# Altium schematic symbol library IC - Digital isolators.SchLib: 7 symbols
Pins are listed as number, name and electrical type; pins without a type are passive.

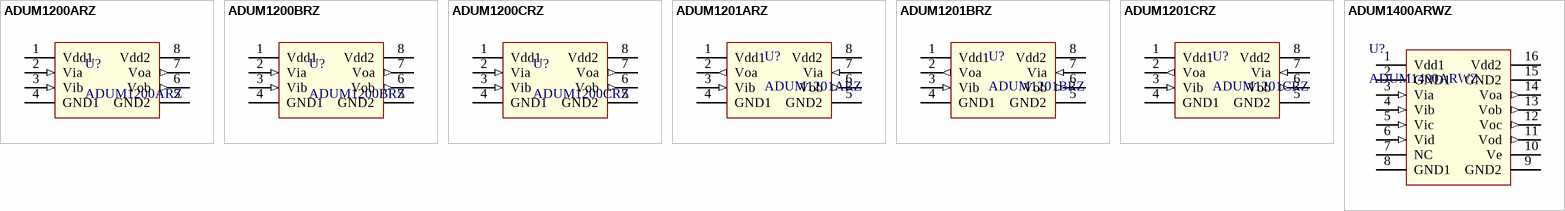
[diagram p0: symbols ADUM1200ARZ to ADUM1400ARWZ]

## ADUM1200ARZ
designator U?
ADUM1200ARZ 2-out digital isolator; Voltages: +2.7...5.5 V; Isolation Vrms: 2500 V for 1 minute; Max Temperature: 105 C; Max data rate: 1 Mbps; Propagation delay: 150 ns; Output rise/fall time: 10 ns; Min pulse width: 1000 ns
footprint LC-SOIC-8_150mil
pins: 1 Vdd1 (power), 2 Via (in), 3 Vib (in), 4 GND1 (power), 5 GND2 (power), 6 Vob (out), 7 Voa (out), 8 Vdd2 (power)

## ADUM1200BRZ
designator U?
ADUM1200BRZ 2-out digital isolator; Voltages: +2.7...5.5 V; Isolation Vrms: 2500 V for 1 minute; Max Temperature: 105 C; Max data rate: 10 Mbps; Propagation delay: 50 ns; Output rise/fall time: 2.5 ns; Min pulse width: 100 ns
footprint LC-SOIC-8_150mil
pins: 1 Vdd1 (power), 2 Via (in), 3 Vib (in), 4 GND1 (power), 5 GND2 (power), 6 Vob (out), 7 Voa (out), 8 Vdd2 (power)

## ADUM1200CRZ
designator U?
ADUM1200CRZ 2-out digital isolator; Voltages: +2.7...5.5 V; Isolation Vrms: 2500 V for 1 minute; Max Temperature: 105 C; Max data rate: 25 Mbps; Propagation delay: 45 ns; Output rise/fall time: 2.5 ns; Min pulse width: 40 ns
footprint LC-SOIC-8_150mil
pins: 1 Vdd1 (power), 2 Via (in), 3 Vib (in), 4 GND1 (power), 5 GND2 (power), 6 Vob (out), 7 Voa (out), 8 Vdd2 (power)

## ADUM1201ARZ
designator U?
ADUM1201ARZ 1in/1-out digital isolator; Voltages: +2.7...5.5 V; Isolation Vrms: 2500 V for 1 minute; Max Temperature: 105 C; Max data rate: 1 Mbps; Propagation delay: 150 ns; Output rise/fall time: 10 ns; Min pulse width: 1000 ns
footprint LC-SOIC-8_150mil
pins: 1 Vdd1 (power), 2 Voa (out), 3 Vib (in), 4 GND1 (power), 5 GND2 (power), 6 Vob (out), 7 Via (in), 8 Vdd2 (power)

## ADUM1201BRZ
designator U?
ADUM1201BRZ 1in/1-out digital isolator; Voltages: +2.7...5.5 V; Isolation Vrms: 2500 V for 1 minute; Max Temperature: 105 C; Max data rate: 10 Mbps; Propagation delay: 50 ns; Output rise/fall time: 2.5 ns; Min pulse width: 100 ns
footprint LC-SOIC-8_150mil
pins: 1 Vdd1 (power), 2 Voa (out), 3 Vib (in), 4 GND1 (power), 5 GND2 (power), 6 Vob (out), 7 Via (in), 8 Vdd2 (power)

## ADUM1201CRZ
designator U?
ADUM1201CRZ 1in/1-out digital isolator; Voltages: +2.7...5.5 V; Isolation Vrms: 2500 V for 1 minute; Max Temperature: 105 C; Max data rate: 25 Mbps; Propagation delay: 45 ns; Output rise/fall time: 2.5 ns; Min pulse width: 40 ns
footprint LC-SOIC-8_150mil
pins: 1 Vdd1 (power), 2 Voa (out), 3 Vib (in), 4 GND1 (power), 5 GND2 (power), 6 Vob (out), 7 Via (in), 8 Vdd2 (power)

## ADUM1400ARWZ
designator U?
ADUM1400ARWZ 4-out digital isolator; Voltages: +2.7...5.5 V; Isolation Vrms: 2500 V for 1 minute; Max Temperature: 105 C; Max data rate: 1 Mbps; Propagation delay: 150 ns; Output rise/fall time: 10 ns; Min pulse width: 1000 ns
footprint LC-SOIC-16_300mil
pins: 1 Vdd1 (power), 2 GND1, 3 Via (in), 4 Vib (in), 5 Vic (in), 6 Vid (in), 7 NC, 8 GND1, 9 GND2, 10 Ve, 11 Vod (out), 12 Voc (out), 13 Vob (out), 14 Voa (out), 15 GND2, 16 Vdd2 (power)